# Altium footprint library Capacitors.PcbLib: 5 footprints
Each footprint in its own frame and in the unit in brackets; x right, y up, seen from the top. Pads: shape width x height; smd on the part's side, far side on the other; paste and mask are expansions set on the pad; w line width, h text height; cw(c..) or ccw(c..) is an arc to the next point about the centre after c.
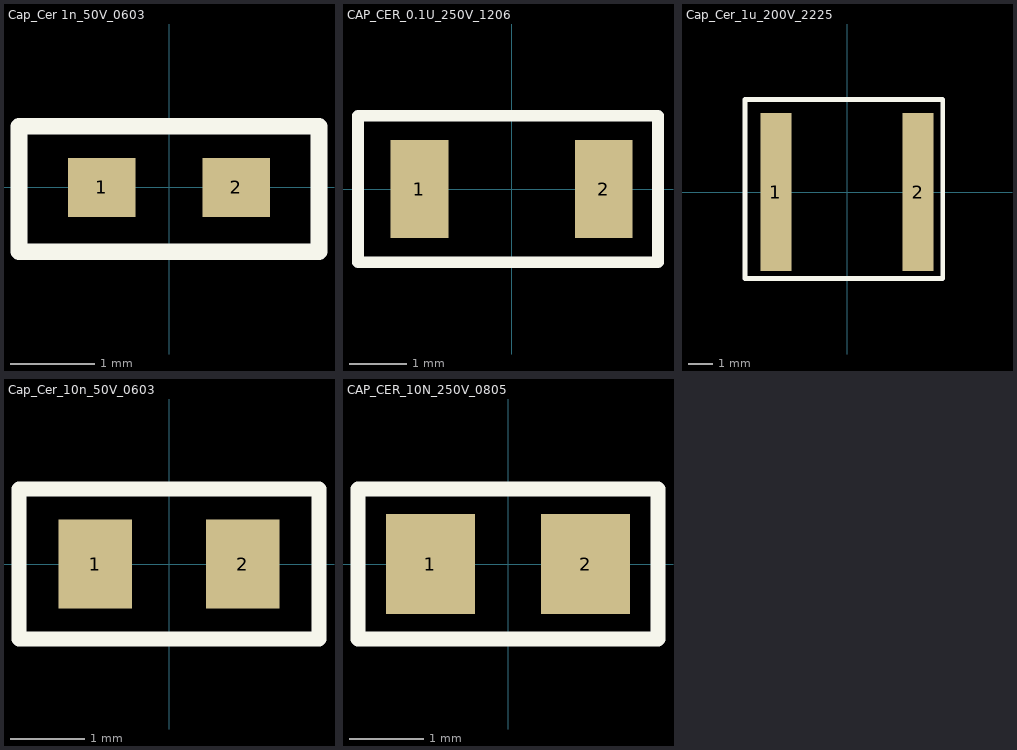
[diagram p0: the footprints below, top view; thin cyan lines are the x and y axes]

## Cap_Cer 1n_50V_0603 [mm]
pads (2):
  rect 0.8x0.7 smd: 1(-0.8,0) 2(0.8,0)
Top Overlay:
  lines w0.2: -1.778,-0.762 -1.778,0.725 1.778,0.725 1.778,-0.762 -1.778,-0.762
3D body "c0603c102j5gactu.stp": height 1, standoff 0.05, extent -0.9,-0.425 0.85,0.445

## CAP_CER_0.1U_250V_1206 [mm]
pads (2):
  rect 1x1.7 smd: 1(-1.6,0) 2(1.6,0)
Top Overlay:
  lines w0.2: -2.667,-1.27 2.54,-1.27 2.54,1.27 -2.667,1.27 -2.667,-1.083 -2.667,-1.27
3D body "c1206c104karactu.stp": height 1.4, standoff 0, extent -1.7,-0.889 1.7,0.911

## Cap_Cer_1u_200V_2225 [mm]
pads (2):
  rect 1.27x6.5 smd: 1(-2.921,0) 2(2.921,0)
Top Overlay:
  lines w0.2: -4.191,-3.556 3.937,-3.556 3.937,3.81 -4.191,3.81 -4.191,-0.413 -4.191,-3.556
3D body "c2225c103kgractu.stp": height 1.8, standoff 0, extent -3.048,-3.353 2.952,3.447

## Cap_Cer_10n_50V_0603 [mm]
pads (2):
  rect 1x1.2 smd: 1(-1,0) 2(1,0)
Top Overlay:
  lines w0.2: -2.032,-1.016 -2.032,0.664 -2.032,1.016 2.032,1.016 2.032,-1.016 -2.032,-1.016
3D body "c0603c103j5ractu.stp": height 0.87, standoff 0, extent -0.9,-0.483 0.85,0.467

## CAP_CER_10N_250V_0805 [mm]
pads (2):
  rect 1.2x1.35 smd: 1(-1.05,0) 2(1.05,0)
Top Overlay:
  lines w0.2: -2.032,-1.016 2.032,-1.016 2.032,1.016 -2.032,1.016 -2.032,0.589 -2.032,-1.016
3D body "cbr08c101jagac.stp": height 0.95, standoff 0, extent -1.1,-0.725 1.1,0.725